# EAGLE library part MPL3115A2 (library MPL3115A2)
Pressure Sensor, 50-110kpa, Lga-8
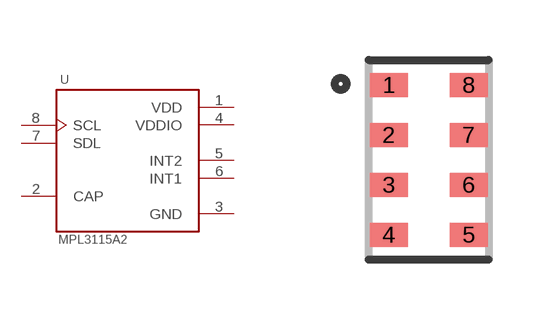
[diagram p0: symbol with the pads of PSON125P300X500X120-8N; footprint PSON125P300X500X120-8N]

Designator prefix U

## MPL3115A2 (Availability: Unavailable; Description: Pressure Sensor 20kPa to 110kPa Absolute 8-Pin LGA Tray; MF: NXP USA; MP: MPL3115A2; Package: LGA-8 Freescale Semiconductor; Price: None)  [PSON125P300X500X120-8N]
1  VDD  pwr
2  CAP
3  GND  pwr
4  VDDIO  pwr
5  INT2  out
6  INT1  out
7  SDL
8  SCL  in

## Footprint PSON125P300X500X120-8N (pad centres in mm)
smd 0.95 x 0.6: 1 -1,1.875; 2 -1,0.625; 3 -1,-0.625; 4 -1,-1.875; 5 1,-1.875; 6 1,-0.625; 7 1,0.625; 8 1,1.875